# Altium integrated library MyLib.IntLib: 12 symbols
Pins are listed as number, name and electrical type; pins without a type are passive.

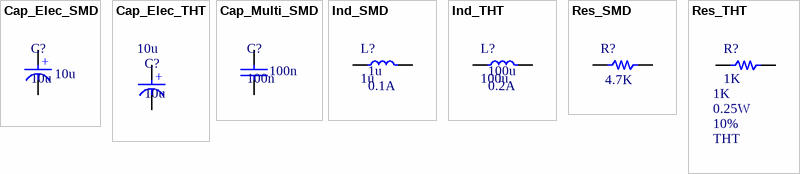
[diagram p0: symbols Cap_Elec_SMD to Res_THT]

## Cap_Elec_SMD
designator C?, comment 10u
Rating: 25V; Type: Electrolyte; Package: 5mm; Value: 10u
footprint Cap_Elec_SMD_5x5.4
pins: N Negative, P Positvie
text: +

## Cap_Elec_THT
designator C?, comment 10u
Rating: 25V; Type: Electrolyte; Package: 5x11; Value: 10u
footprint Cap_Elec_THT
pins: N Negative, P Positvie
text: +

## Cap_Multi_SMD
designator C?, comment 100n
Rating: 50V; Type: MultiLayer; Package: 0805; Value: 100n
footprint Cap_SMD_0805
pins: 1, 2

## Ind_SMD
designator L?, comment 1u  Rating: 0.1A
Type: Resistor; Package: THT; Value: 1u
footprint Ind_SMD_0805
footprint Ind_SMD_Power_D128C
pins: 1, 2

## Ind_THT
designator L?, comment 100u  Rating: 0.2A
Type: Resistor; Package: THT; Value: 100u
footprint IND_THT_1/8
footprint IND_THT_1/4
footprint Ind_Drum_10x12
pins: 1, 2

## Res_SMD
designator R?, comment 4.7K
Rating: 0.125W; Type: 1%; Package: 0805; Value: 4.7K
footprint Res_SMD_0805
pins: 1, 2

## Res_THT
designator R?, comment 1K  Package: THT  Rating: 0.25W  Type: 10%
Value: 1K
footprint Res_THT_1/4
pins: 1, 2


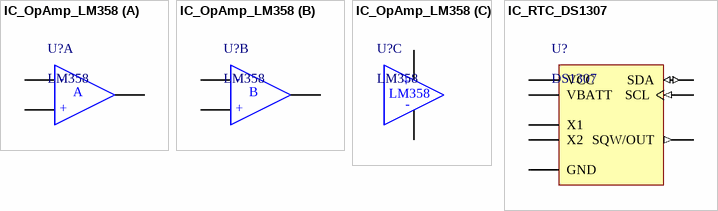
[diagram p1: symbols IC_OpAmp_LM358 to IC_RTC_DS1307]

## IC_OpAmp_LM358
designator U?, comment LM358
Rating: R-to-R; Package: PDIP-8; Type: S-Supply; Value: LM358
footprint PDIP-8
footprint SOIC-8
part A pins: 1 OUT1, 2 IN1-, 3 IN1+
part B pins: 5 IN2+, 6 IN2-, 7 OUT2
part C pins: 4 V-, 8 V+
part A text: -; A; +
part B text: -; B; +
part C text: +; -

## IC_RTC_DS1307
designator U?, comment DS1307
Rating: Rating?; Package: PDIP-8; Type: RTC; Value: DS1307
footprint PDIP-8
footprint SOIC-8
pins: 1 X1, 2 X2, 3 VBATT (power), 4 GND (power), 5 SDA (io), 6 SCL (in), 7 SQW/OUT (out), 8 VCC (power)


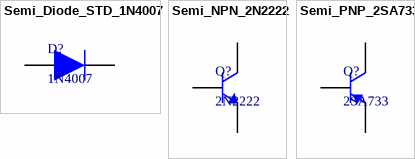
[diagram p2: symbols Semi_Diode_STD_1N4007 to Semi_PNP_2SA733]

## Semi_Diode_STD_1N4007
designator D?, comment 1N4007
General Purpose Rectifiers; Rating: 1A; Type: Generic; Package: DO-41; Value: 1N4007
footprint DO-41
footprint SMA-DO214AC
pins: A Anode, K Cathode

## Semi_NPN_2N2222
designator Q?, comment 2N2222
Rating: 100hfe; Type: NPN; Package: TO-92; Value: 2N2222
footprint TO-92
pins: 1 E, 2 B, 3 C

## Semi_PNP_2SA733
designator Q?, comment 2SA733
Rating: 200hfe; Type: PNP; Package: SOT-23; Value: 2SA733
footprint SOT-23
pins: 1 B, 2 E, 3 C